# Altium integrated library MPXV7002_pitot_tube.IntLib: 1 symbol
Pins are listed as number, name and electrical type; pins without a type are passive.

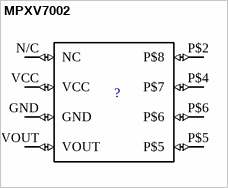
[diagram p0: symbol MPXV7002]

## MPXV7002
designator ?  (value not drawn)
Value: *
footprint SOP8_MPXV7002(Primary)
pins: GND (io), N/C NC (io), P$2 P$8 (io), P$4 P$7 (io), P$5 (io), P$6 (io), VCC (io), VOUT (io)